# EAGLE library part T120F576 (library EfinixTrio)
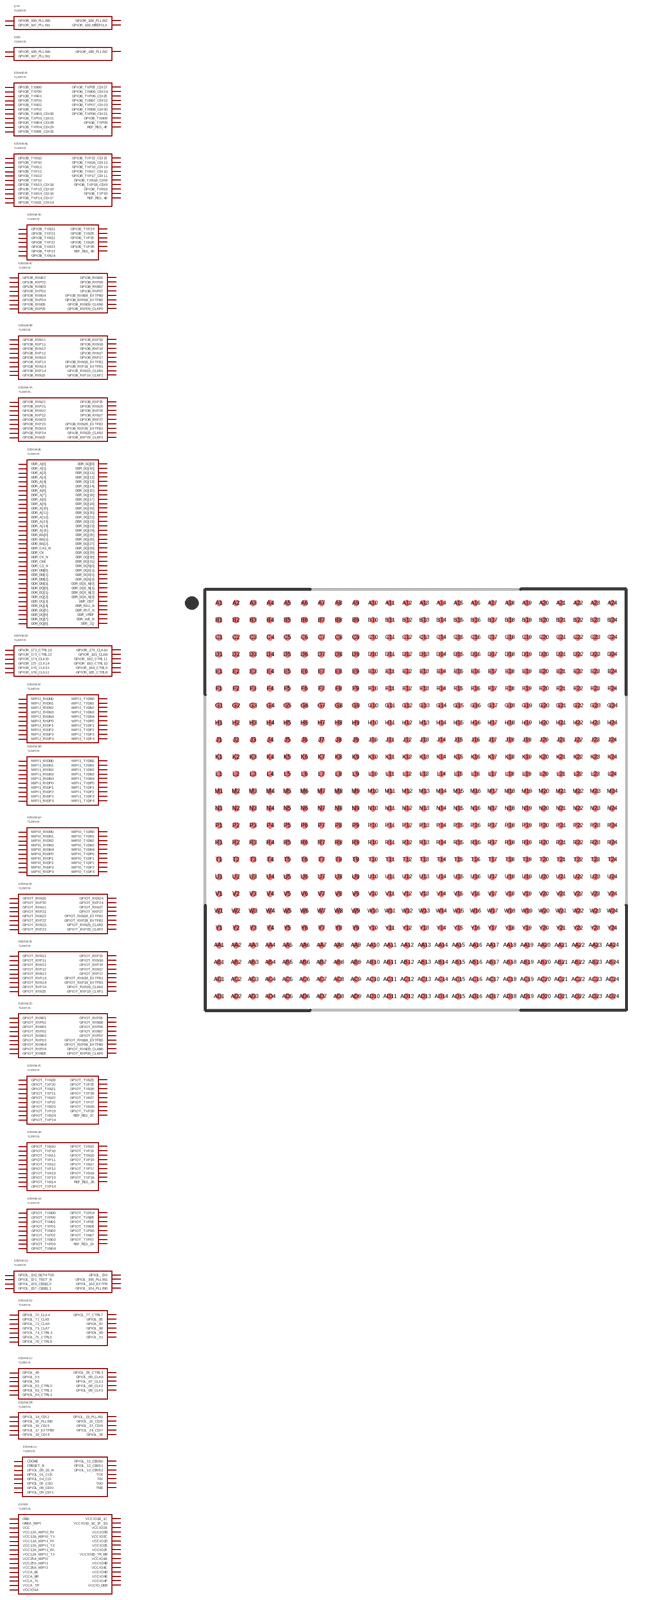
[diagram p2: symbol with the pads of FBGA576; footprint FBGA576]

Designator prefix IC; gates PWR=T120F576PWR BANK1A=T120F576BANK1A BANK1B=T120F576BANK1B BANK1C=T120F576BANK1C BANK1D=T120F576BANK1D BANK1G=T120F576BANK1G BANK2A=T120F576BANK2A BANK2B=T120F576BANK2B BANK2C=T120F576BANK2C BANK2D=T120F576BANK2D BANK2E=T120F576BANK2E BANK2F=T120F576BANK2F BANK3A=T120F576BANK3A BANK3B=T120F576BANK3B BANK3C=T120F576BANK3C BANK3D=T120F576BANK3D BANK3E=T120F576BANK3E BANK4A=T120F576BANK4A BANK4B=T120F576BANK4B BANK4C=T120F576BANK4C BANK4D=T120F576BANK4D BANK4E=T120F576BANK4E BANK4F=T120F576BANK4F BR=T120F576BR TR=T120F576TR

## T120F576  [FBGA576]
A1  PWR:GND  pwr
A2  BANK3B:MIPI1_RXDP1
A3  BANK3B:MIPI1_RXDN0
A4  BANK3B:MIPI1_TXDP4
A5  BANK3B:MIPI1_TXDP0
A6  BANK3A:MIPI0_TXDP3
A7  BANK3A:MIPI0_TXDP2
A8  BANK3A:MIPI0_TXDN1
A9  BANK2F:GPIOT_RXP28_EXTFB2
A10  BANK2F:GPIOT_RXP27
A11  BANK2F:GPIOT_RXP20
A12  BANK2E:GPIOT_RXN12
A13  BANK2E:GPIOT_RXN19_CLKN1
A14  BANK2D:GPIOT_RXN08_EXTFB0
A15  BANK2D:GPIOT_RXN07
A16  BANK2C:GPIOT_TXP28
A17  BANK2C:GPIOT_TXP27
A18  BANK2C:GPIOT_TXP26
A19  BANK2B:GPIOT_TXN18
A20  BANK2B:GPIOT_TXP15
A21  BANK2B:GPIOT_TXP17
A22  BANK2B:GPIOT_TXP16
A23  BANK2B:GPIOT_TXN14
A24  PWR:GND  pwr
AA1  PWR:GND  pwr
AA2  BANK3E:DDR_DM[2]
AA3  BANK3E:DDR_DQS_N[2]
AA4  BANK3E:DDR_DQ[23]
AA5  BANK3E:DDR_DQ[21]
AA6  BANK3E:DDR_DQ[22]
AA7  PWR:GND  pwr
AA8  BR:GPIOR_186_PLLIN0
AA9  BR:GPIOR_187_PLLIN1
AA10  BANK4A:GPIOB_RXP25
AA11  BANK4A:GPIOB_RXN25
AA12  BANK4B:GPIOB_RXN16
AA13  BANK4B:GPIOB_RXP15
AA14  BANK4B:GPIOB_RXN12
AA15  BANK4C:GPIOB_RXP05
AA16  BANK4C:GPIOB_RXN04
AA17  BANK4D:GPIOB_TXP26
AA18  PWR:VCCIO4D  pwr
AA19  BANK4E:GPIOB_TXN13_CDI18
AA20  BANK4E:GPIOB_TXN10
AA21  PWR:VCCIO4E  pwr
AA22  BANK4F:GPIOB_TXN07_CDI22
AA23  PWR:GND  pwr
AA24  BANK4F:GPIOB_TXP00
AB1  BANK3E:DDR_DQ[24]
AB2  BANK3E:DDR_DQ[26]
AB3  PWR:GND  pwr
AB4  BANK3E:DDR_DQ[25]
AB5  PWR:GND  pwr
AB6  BANK3E:DDR_BA[0]
AB7  BANK3E:DDR_ODT
AB8  BR:GPIOR_188_PLLIN2
AB9  BANK3E:DDR_CS_N
AB10  PWR:VCCIO4A  pwr
AB11  PWR:GND  pwr
AB12  BANK4B:GPIOB_RXP16
AB13  BANK4B:GPIOB_RXN15
AB14  PWR:GND  pwr
AB15  PWR:VCCIO4C  pwr
AB16  BANK4C:GPIOB_RXP04
AB17  PWR:GND  pwr
AB18  BANK4D:GPIOB_TXP24
AB19  BANK4E:GPIOB_TXP13_CDI19
AB20  PWR:GND  pwr
AB21  BANK4E:GPIOB_TXP15_CDI15
AB22  PWR:VCCIO4F  pwr
AB23  BANK4F:GPIOB_TXP03_CDI31
AB24  BANK4F:GPIOB_TXN01
AC1  BANK3E:DDR_DQ[27]
AC2  PWR:VCCIO_DDR  pwr
AC3  BANK3E:DDR_DQ[29]
AC4  PWR:VCCIO_DDR  pwr
AC5  BANK3E:DDR_DM[3]
AC6  PWR:VCCIO_DDR  pwr
AC7  BANK3E:DDR_BA[2]
AC8  PWR:VCCIO_DDR  pwr
AC9  BANK3E:DDR_CKE
AC10  BANK4A:GPIOB_RXN27
AC11  BANK4A:GPIOB_RXP26
AC12  BANK4B:GPIOB_RXP19_CLKP1
AC13  BANK4B:GPIOB_RXP18_EXTFB1
AC14  BANK4B:GPIOB_RXP17
AC15  BANK4C:GPIOB_RXN08_EXTFB0
AC16  BANK4C:GPIOB_RXN07
AC17  BANK4D:GPIOB_TXN25
AC18  BANK4D:GPIOB_TXN24
AC19  BANK4E:GPIOB_TXN19
AC20  BANK4E:GPIOB_TXN18_CDI8
AC21  BANK4E:GPIOB_TXN15_CDI14
AC22  BANK4F:GPIOB_TXP06_CDI25
AC23  BANK4F:GPIOB_TXN03_CDI30
AC24  BANK4F:GPIOB_TXP01
AD1  PWR:GND  pwr
AD2  BANK3E:DDR_DQ[28]
AD3  BANK3E:DDR_DQ[30]
AD4  BANK3E:DDR_DQ[31]
AD5  BANK3E:DDR_BA[1]
AD6  BANK3E:DDR_WE_N
AD7  PWR:GND  pwr
AD8  BANK3E:DDR_RAS_N
AD9  BANK3E:DDR_CAS_N
AD10  BANK4A:GPIOB_RXP27
AD11  BANK4A:GPIOB_RXN26
AD12  BANK4B:GPIOB_RXN19_CLKN1
AD13  BANK4B:GPIOB_RXN18_EXTFB1
AD14  BANK4B:GPIOB_RXN17
AD15  BANK4C:GPIOB_RXP08_EXTFB0
AD16  BANK4C:GPIOB_RXP07
AD17  BANK4D:GPIOB_TXP25
AD18  BANK4D:REF_RES_4D
AD19  BANK4E:GPIOB_TXP19
AD20  BANK4E:GPIOB_TXP18_CDI9
AD21  BANK4E:REF_RES_4E
AD22  BANK4F:GPIOB_TXN06_CDI24
AD23  BANK4F:REF_RES_4F
AD24  PWR:GND  pwr
B1  BANK3B:MIPI1_RXDN2
B2  BANK3B:MIPI1_RXDN1
B3  BANK3B:MIPI1_RXDP0
B4  BANK3B:MIPI1_TXDN4
B5  BANK3B:MIPI1_TXDN0
B6  BANK3A:MIPI0_TXDN3
B7  BANK3A:MIPI0_TXDN2
B8  BANK3A:MIPI0_TXDP1
B9  BANK2F:GPIOT_RXN28_EXTFB2
B10  BANK2F:GPIOT_RXN27
B11  BANK2F:GPIOT_RXN20
B12  BANK2E:GPIOT_RXP12
B13  BANK2E:GPIOT_RXP19_CLKP1
B14  BANK2D:GPIOT_RXP08_EXTFB0
B15  BANK2D:GPIOT_RXP07
B16  BANK2C:GPIOT_TXN28
B17  BANK2C:GPIOT_TXN27
B18  BANK2C:GPIOT_TXN26
B19  BANK2B:GPIOT_TXP18
B20  BANK2B:GPIOT_TXN15
B21  BANK2B:GPIOT_TXN17
B22  BANK2B:GPIOT_TXN16
B23  BANK2B:GPIOT_TXP14
B24  BANK2B:GPIOT_TXN13
C1  BANK3B:MIPI1_RXDP2
C2  PWR:GNDA_MIPI  pwr
C3  PWR:VCC25A_MIPI1  pwr
C4  PWR:GNDA_MIPI  pwr
C5  BANK3B:MIPI1_TXDN2
C6  BANK3A:MIPI0_TXDP4
C7  PWR:VCC12A_MIPI0_TX  pwr
C8  BANK3A:MIPI0_TXDN0
C9  BANK2F:GPIOT_RXN29_CLKN2
C10  PWR:GND  pwr
C11  PWR:VCCIO2F  pwr
C12  PWR:VCCIO2E  pwr
C13  BANK2E:GPIOT_RXN17
C14  PWR:GND  pwr
C15  BANK2D:GPIOT_RXN05
C16  BANK2C:REF_RES_2C
C17  PWR:GND  pwr
C18  PWR:VCCIO2C  pwr
C19  PWR:VCCIO2B  pwr
C20  BANK2B:REF_RES_2B
C21  BANK2A:REF_RES_2A
C22  PWR:VCCIO2B  pwr
C23  PWR:GND  pwr
C24  BANK2B:GPIOT_TXP13
D1  BANK3B:MIPI1_RXDP4
D2  PWR:VCC12A_MIPI1_TX  pwr
D3  BANK3B:MIPI1_RXDN3
D4  PWR:VCC12A_MIPI1_RX  pwr
D5  BANK3B:MIPI1_TXDP2
D6  BANK3A:MIPI0_TXDN4
D7  BANK3A:MIPI0_RXDN1
D8  BANK3A:MIPI0_TXDP0
D9  BANK2F:GPIOT_RXP29_CLKP2
D10  BANK2F:GPIOT_RXP24
D11  BANK2F:GPIOT_RXP21
D12  BANK2E:GPIOT_RXN18_EXTFB1
D13  BANK2E:GPIOT_RXP17
D14  PWR:VCCIO2D  pwr
D15  BANK2D:GPIOT_RXP05
D16  BANK2D:GPIOT_RXP06
D17  BANK2C:GPIOT_TXN25
D18  BANK2C:GPIOT_TXN24
D19  BANK2A:GPIOT_TXN07
D20  PWR:GND  pwr
D21  BANK2A:GPIOT_TXN05
D22  BANK2B:GPIOT_TXN11
D23  BANK2B:GPIOT_TXP12
D24  BANK2B:GPIOT_TXP10
E1  BANK3B:MIPI1_RXDN4
E2  BANK3C:MIPI2_TXDP0
E3  BANK3B:MIPI1_RXDP3
E4  BANK3B:MIPI1_TXDP3
E5  BANK3B:MIPI1_TXDP1
E6  PWR:VCC25A_MIPI0  pwr
E7  BANK3A:MIPI0_RXDP1
E8  BANK3A:MIPI0_RXDN0
E9  PWR:GND  pwr
E10  BANK2F:GPIOT_RXN24
E11  BANK2F:GPIOT_RXN21
E12  BANK2E:GPIOT_RXP18_EXTFB1
E13  BANK2E:GPIOT_RXN16
E14  BANK2E:GPIOT_RXN15
E15  BANK2D:GPIOT_RXP03
E16  BANK2D:GPIOT_RXN06
E17  BANK2C:GPIOT_TXP25
E18  BANK2C:GPIOT_TXP24
E19  BANK2A:GPIOT_TXP07
E20  BANK2A:GPIOT_TXN06
E21  BANK2A:GPIOT_TXP05
E22  BANK2B:GPIOT_TXP11
E23  BANK2B:GPIOT_TXN12
E24  BANK2B:GPIOT_TXN10
F1  BANK3C:MIPI2_TXDN3
F2  BANK3C:MIPI2_TXDN0
F3  PWR:VCC25A_MIPI2  pwr
F4  BANK3B:MIPI1_TXDN3
F5  BANK3B:MIPI1_TXDN1
F6  BANK3A:MIPI0_RXDP2
F7  PWR:GNDA_MIPI  pwr
F8  BANK3A:MIPI0_RXDP0
F9  TR:GPIOR_167_PLLIN1
F10  BANK2F:GPIOT_RXN23
F11  PWR:GND  pwr
F12  BANK2E:GPIOT_RXN11
F13  BANK2E:GPIOT_RXP16
F14  BANK2E:GPIOT_RXP15
F15  BANK2D:GPIOT_RXN03
F16  PWR:VCCIO2D  pwr
F17  BANK2C:GPIOT_TXN20
F18  PWR:VCCIO2C  pwr
F19  BANK2A:GPIOT_TXP00
F20  BANK2A:GPIOT_TXP06
F21  BANK2A:GPIOT_TXP01
F22  BANK2A:GPIOT_TXN04
F23  PWR:VCCIO2A  pwr
F24  BANK2A:GPIOT_TXN02
G1  BANK3C:MIPI2_TXDP3
G2  PWR:GNDA_MIPI  pwr
G3  BANK3C:MIPI2_TXDP2
G4  PWR:VCC12A_MIPI2_RX  pwr
G5  BANK3C:MIPI2_TXDN1
G6  BANK3A:MIPI0_RXDN2
G7  BANK3A:MIPI0_RXDP4
G8  PWR:VCC12A_MIPI0_RX  pwr
G9  TR:GPIOR_169_MREFCLK
G10  BANK2F:GPIOT_RXP23
G11  PWR:VCCIO2F  pwr
G12  BANK2E:GPIOT_RXP11
G13  PWR:VCCIO2E  pwr
G14  PWR:GND  pwr
G15  BANK2D:GPIOT_RXN01
G16  BANK2D:GPIOT_RXP04
G17  BANK2C:GPIOT_TXP20
G18  BANK2C:GPIOT_TXN21
G19  BANK2A:GPIOT_TXN00
G20  PWR:VCCIO2A  pwr
G21  BANK2A:GPIOT_TXN01
G22  BANK2A:GPIOT_TXP04
G23  BANK2A:GPIOT_TXN03
G24  BANK2A:GPIOT_TXP02
H1  BANK3C:MIPI2_TXDN4
H2  PWR:VCC12A_MIPI2_TX  pwr
H3  BANK3C:MIPI2_TXDN2
H4  PWR:GNDA_MIPI  pwr
H5  BANK3C:MIPI2_TXDP1
H6  PWR:GNDA_MIPI  pwr
H7  BANK3A:MIPI0_RXDN4
H8  BANK3D:GPIOR_172_CTRL13
H9  TR:GPIOR_168_PLLIN2
H10  PWR:VCCA_TR  pwr
H11  BANK2F:GPIOT_RXN22
H12  BANK2E:GPIOT_RXP14
H13  BANK2E:GPIOT_RXN13
H14  BANK2D:GPIOT_RXN02
H15  BANK2D:GPIOT_RXP01
H16  BANK2D:GPIOT_RXN04
H17  PWR:GND  pwr
H18  BANK2C:GPIOT_TXP21
H19  PWR:GND  pwr
H20  BANK1D:GPIOL_91
H21  PWR:GND  pwr
H22  BANK1G:GPIOL_162_EXTFB
H23  BANK2A:GPIOT_TXP03
H24  BANK1G:GPIOL_164_PLLIN0
J1  BANK3C:MIPI2_TXDP4
J2  BANK3C:MIPI2_RXDN4
J3  BANK3C:MIPI2_RXDN3
J4  BANK3C:MIPI2_RXDN2
J5  BANK3C:MIPI2_RXDP1
J6  BANK3C:MIPI2_RXDP0
J7  BANK3A:MIPI0_RXDP3
J8  BANK3D:GPIOR_173_CTRL12
J9  TR:GPIOR_166_PLLIN0
J10  PWR:VCCA_TR  pwr
J11  BANK2F:GPIOT_RXP22
J12  BANK2E:GPIOT_RXN14
J13  BANK2E:GPIOT_RXP13
J14  BANK2D:GPIOT_RXP02
J15  PWR:VCCA_TL  pwr
J16  BANK2D:GPIOT_RXP09_CLKP0
J17  BANK2C:GPIOT_TXP23
J18  BANK2C:GPIOT_TXP22
J19  BANK1D:GPIOL_89
J20  BANK1D:GPIOL_87
J21  BANK1G:GPIOL_150_NSTATUS
J22  BANK1G:GPIOL_160_PLLIN1
J23  PWR:VCCIO1D_1E_1F_1G  pwr
J24  BANK1G:GPIOL_157_CBSEL1
K1  PWR:GND  pwr
K2  BANK3C:MIPI2_RXDP4
K3  BANK3C:MIPI2_RXDP3
K4  BANK3C:MIPI2_RXDP2
K5  BANK3C:MIPI2_RXDN1
K6  BANK3C:MIPI2_RXDN0
K7  BANK3A:MIPI0_RXDN3
K8  BANK3D:GPIOR_175_CLK14
K9  PWR:VCCIO3D_TR_BR  pwr
K10  PWR:GND  pwr
K11  PWR:VCC  pwr
K12  PWR:GND  pwr
K13  PWR:VCC  pwr
K14  PWR:GND  pwr
K15  PWR:VCC  pwr
K16  BANK2D:GPIOT_RXN09_CLKN0
K17  BANK2C:GPIOT_TXN23
K18  BANK2C:GPIOT_TXN22
K19  BANK1D:GPIOL_85
K20  BANK1D:GPIOL_88
K21  BANK1D:GPIOL_77_CTRL7
K22  BANK1G:GPIOL_156_CBSEL0
K23  BANK1G:GPIOL_151_TEST_N
K24  BANK1G:GPIOL_159
L1  BANK3E:DDR_DM[1]
L2  PWR:VCCIO_DDR  pwr
L3  PWR:GND  pwr
L4  PWR:VCCIO_DDR  pwr
L5  PWR:GND  pwr
L6  PWR:VCCIO_DDR  pwr
L7  BANK3D:GPIOR_182_CTRL11
L8  BANK3D:GPIOR_174_CLK15
L9  PWR:VCCIO3D_TR_BR  pwr
L10  PWR:VCC  pwr
L11  PWR:GND  pwr
L12  PWR:VCC  pwr
L13  PWR:GND  pwr
L14  PWR:VCC  pwr
L15  PWR:GND  pwr
L16  BANK1C:GPIOL_68_CLK2
L17  BANK1C:GPIOL_65_CTRL3
L18  BANK1C:GPIOL_67_CLK1
L19  BANK1C:GPIOL_66_CLK0
L20  BANK1C:GPIOL_64_CTRL2
L21  PWR:VCCIO1D_1E_1F_1G  pwr
L22  BANK1D:GPIOL_76_CTRL6
L23  BANK1D:GPIOL_75_CTRL5
L24  BANK1D:GPIOL_74_CTRL4
M1  BANK3E:DDR_DQ[10]
M2  BANK3E:DDR_DQ[12]
M3  BANK3E:DDR_DQ[13]
M4  BANK3E:DDR_DQ[14]
M5  BANK3E:DDR_DQ[15]
M6  BANK3E:DDR_VREF
M7  BANK3D:GPIOR_183_CTRL10
M8  BANK3D:GPIOR_176_CLK13
M9  PWR:VCC  pwr
M10  PWR:GND  pwr
M11  PWR:VCC  pwr
M12  PWR:GND  pwr
M13  PWR:VCC  pwr
M14  PWR:GND  pwr
M15  PWR:VCC  pwr
M16  BANK1C:GPIOL_63_CTRL1
M17  PWR:VCCIO1B_1C  pwr
M18  BANK1C:GPIOL_69_CLK3
M19  BANK1C:GPIOL_62_CTRL0
M20  BANK1C:GPIOL_56
M21  BANK1D:GPIOL_72_CLK6
M22  BANK1D:GPIOL_73_CLK7
M23  BANK1D:GPIOL_70_CLK4
M24  BANK1D:GPIOL_71_CLK5
N1  BANK3E:DDR_DQ[7]
N2  BANK3E:DDR_DQ[9]
N3  BANK3E:DDR_DQS_N[1]
N4  BANK3E:DDR_DQS[1]
N5  BANK3D:GPIOR_184_CTRL9
N6  BANK3D:GPIOR_181_CLK8
N7  BANK3D:GPIOR_185_CTRL8
N8  BANK3D:GPIOR_179_CLK10
N9  BANK3D:GPIOR_178_CLK11
N10  PWR:VCC  pwr
N11  PWR:GND  pwr
N12  PWR:VCC  pwr
N13  PWR:GND  pwr
N14  PWR:VCC  pwr
N15  PWR:GND  pwr
N16  BANK1C:GPIOL_53
N17  BANK1C:GPIOL_49
N18  BANK1B:GPIOL_36
N19  PWR:VCCIO1B_1C  pwr
N20  BANK1B:GPIOL_24_CDI7
N21  BANK1A:GPIOL_13_CBUS2
N22  BANK1A:GPIOL_12_CBUS1
N23  BANK1A:GPIOL_09_CDI1
N24  BANK1A:GPIOL_08_CDI0
P1  BANK3E:DDR_DQ[6]
P2  PWR:VCCIO_DDR  pwr
P3  BANK3E:DDR_DQ[11]
P4  PWR:VCCIO_DDR  pwr
P5  BANK3E:DDR_A[3]
P6  PWR:VCCIO_DDR  pwr
P7  BANK3E:DDR_A[1]
P8  BANK3E:DDR_A[0]
P9  PWR:VCC  pwr
P10  PWR:GND  pwr
P11  PWR:VCC  pwr
P12  PWR:GND  pwr
P13  PWR:VCC  pwr
P14  PWR:GND  pwr
P15  PWR:VCC  pwr
P16  BANK1B:GPIOL_22_CDI6
P17  PWR:VCCA_BL  pwr
P18  BANK1B:GPIOL_20_CDI5
P19  BANK1B:GPIOL_19_PLLIN1
P20  BANK1A:TDI
P21  BANK1A:GPIOL_11_CBUS0
P22  BANK1A:GPIOL_01_CCK
P23  PWR:VCCIO1A  pwr
P24  BANK1A:GPIOL_05_CSO
R1  PWR:GND  pwr
R2  BANK3E:DDR_DQ[8]
R3  PWR:GND  pwr
R4  BANK3E:DDR_DQ[5]
R5  PWR:GND  pwr
R6  BANK3E:DDR_A[2]
R7  PWR:GND  pwr
R8  BANK3E:DDR_A[7]
R9  PWR:GND  pwr
R10  PWR:VCC  pwr
R11  PWR:GND  pwr
R12  PWR:VCC  pwr
R13  PWR:GND  pwr
R14  PWR:VCC  pwr
R15  PWR:GND  pwr
R16  BANK1B:GPIOL_18_CDI4
R17  BANK1B:GPIOL_16_CDI3
R18  BANK1B:GPIOL_15_PLLIN0
R19  BANK1B:GPIOL_14_CDI2
R20  BANK1A:TCK
R21  BANK1A:TMS
R22  BANK4F:GPIOB_TXN09
R23  BANK1A:GPIOL_00_SS_N
R24  BANK1A:GPIOL_04_CSI
T1  BANK3E:DDR_DM[0]
T2  BANK3E:DDR_DQ[4]
T3  BANK3E:DDR_DQS[0]
T4  BANK3E:DDR_DQS_N[0]
T5  BANK3E:DDR_A[9]
T6  BANK3E:DDR_A[5]
T7  BANK3E:DDR_A[4]
T8  BANK3E:DDR_A[6]
T9  BANK3E:DDR_A[13]
T10  PWR:VCCA_BR  pwr
T11  PWR:VCCA_BR  pwr
T12  BANK4A:GPIOB_RXN24
T13  BANK4B:GPIOB_RXN14
T14  BANK4B:GPIOB_RXP13
T15  BANK4C:GPIOB_RXP03
T16  BANK4C:GPIOB_RXN02
T17  BANK1B:GPIOL_17_EXTFB0
T18  BANK4D:GPIOB_TXN21
T19  BANK4E:GPIOB_TXP14_CDI17
T20  PWR:GND  pwr
T21  BANK1A:TDO
T22  BANK4F:GPIOB_TXP09
T23  BANK1A:CDONE
T24  BANK1A:CRESET_N
U1  BANK3E:DDR_DQ[1]
U2  PWR:VCCIO_DDR  pwr
U3  BANK3E:DDR_DQ[3]
U4  PWR:VCCIO_DDR  pwr
U5  BANK3E:DDR_A[11]
U6  PWR:VCCIO_DDR  pwr
U7  BANK3E:DDR_A[8]
U8  PWR:VCCIO_DDR  pwr
U9  BANK3E:DDR_A[15]
U10  BANK3E:DDR_A[14]
U11  BANK4A:GPIOB_RXN23
U12  BANK4A:GPIOB_RXP24
U13  BANK4B:GPIOB_RXP14
U14  BANK4B:GPIOB_RXN13
U15  BANK4C:GPIOB_RXN03
U16  BANK4C:GPIOB_RXP02
U17  BANK4D:GPIOB_TXP22
U18  BANK4D:GPIOB_TXP21
U19  BANK4E:GPIOB_TXN14_CDI16
U20  PWR:VCCIO4E  pwr
U21  BANK4E:GPIOB_TXN16_CDI12
U22  PWR:GND  pwr
U23  BANK4F:GPIOB_TXN05_CDI26
U24  BANK4F:GPIOB_TXP05_CDI27
V1  BANK3E:DDR_DQ[2]
V2  PWR:GND  pwr
V3  BANK3E:DDR_DQ[0]
V4  BANK3E:DDR_ZQ
V5  PWR:GND  pwr
V6  BANK3E:DDR_A[12]
V7  PWR:GND  pwr
V8  BANK3E:DDR_A[10]
V9  BANK4A:GPIOB_RXN29_CLKN2
V10  BANK4A:GPIOB_RXN28_EXTFB2
V11  BANK4A:GPIOB_RXP23
V12  PWR:VCCIO4A  pwr
V13  BANK4B:GPIOB_RXP11
V14  PWR:VCCIO4B  pwr
V15  BANK4C:GPIOB_RXN09_CLKN0
V16  PWR:VCCIO4C  pwr
V17  BANK4D:GPIOB_TXN22
V18  PWR:VCCIO4D  pwr
V19  BANK4E:GPIOB_TXN17_CDI10
V20  BANK4E:GPIOB_TXP17_CDI11
V21  BANK4E:GPIOB_TXP16_CDI13
V22  BANK4F:GPIOB_TXN08_CDI20
V23  PWR:VCCIO4F  pwr
V24  BANK4F:GPIOB_TXN02
W1  BANK3E:DDR_DQ[16]
W2  BANK3E:DDR_DQ[17]
W3  PWR:GND  pwr
W4  BANK3E:DDR_DQ[18]
W5  BANK3E:DDR_DQS_N[3]
W6  BANK3E:DDR_DQS[3]
W7  BANK3E:DDR_CK_N
W8  BANK3E:DDR_RST_N
W9  BANK4A:GPIOB_RXP29_CLKP2
W10  BANK4A:GPIOB_RXP28_EXTFB2
W11  PWR:GND  pwr
W12  BANK4A:GPIOB_RXP21
W13  BANK4B:GPIOB_RXN11
W14  PWR:GND  pwr
W15  BANK4C:GPIOB_RXP09_CLKP0
W16  BANK4C:GPIOB_RXN06
W17  PWR:GND  pwr
W18  BANK4D:GPIOB_TXN23
W19  BANK4E:GPIOB_TXP11
W20  BANK4E:GPIOB_TXN11
W21  BANK4E:GPIOB_TXN12
W22  BANK4F:GPIOB_TXP08_CDI21
W23  BANK4F:GPIOB_TXP04_CDI29
W24  BANK4F:GPIOB_TXP02
Y1  BANK3E:DDR_DQ[19]
Y2  PWR:VCCIO_DDR  pwr
Y3  BANK3E:DDR_DQS[2]
Y4  PWR:VCCIO_DDR  pwr
Y5  BANK3E:DDR_DQ[20]
Y6  PWR:VCCIO_DDR  pwr
Y7  BANK3E:DDR_CK
Y8  PWR:VCCIO_DDR  pwr
Y9  PWR:GND  pwr
Y10  BANK4A:GPIOB_RXN22
Y11  BANK4A:GPIOB_RXP22
Y12  BANK4A:GPIOB_RXN21
Y13  PWR:VCCIO4B  pwr
Y14  BANK4B:GPIOB_RXP12
Y15  BANK4C:GPIOB_RXN05
Y16  BANK4C:GPIOB_RXP06
Y17  BANK4D:GPIOB_TXN26
Y18  BANK4D:GPIOB_TXP23
Y19  PWR:GND  pwr
Y20  BANK4E:GPIOB_TXP10
Y21  BANK4E:GPIOB_TXP12
Y22  BANK4F:GPIOB_TXP07_CDI23
Y23  BANK4F:GPIOB_TXN04_CDI28
Y24  BANK4F:GPIOB_TXN00

## Footprint FBGA576 (pad centres in mm)
576-BGA, collapsing, 0.65 mm pitch, 16.00 X 16.00 X 1.10 mm body 576-pin collapsing BGA package with 0.65 mm col pitch and 0.65 mm row pitch with body size 16.00 X 16.00 X 1.10 mm
smd 0.25 x 0.25: A1 -7.475,7.475; A2 -6.825,7.475; A3 -6.175,7.475; A4 -5.525,7.475; A5 -4.875,7.475; A6 -4.225,7.475; A7 -3.575,7.475; A8 -2.925,7.475; A9 -2.275,7.475; A10 -1.625,7.475; A11 -0.975,7.475; A12 -0.325,7.475; A13 0.325,7.475; A14 0.975,7.475; A15 1.625,7.475; A16 2.275,7.475; A17 2.925,7.475; A18 3.575,7.475; A19 4.225,7.475; A20 4.875,7.475; A21 5.525,7.475; A22 6.175,7.475; A23 6.825,7.475; A24 7.475,7.475; AA1 -7.475,-5.525; AA2 -6.825,-5.525; AA3 -6.175,-5.525; AA4 -5.525,-5.525; AA5 -4.875,-5.525; AA6 -4.225,-5.525; AA7 -3.575,-5.525; AA8 -2.925,-5.525; AA9 -2.275,-5.525; AA10 -1.625,-5.525; AA11 -0.975,-5.525; AA12 -0.325,-5.525; AA13 0.325,-5.525; AA14 0.975,-5.525; AA15 1.625,-5.525; AA16 2.275,-5.525; AA17 2.925,-5.525; AA18 3.575,-5.525; AA19 4.225,-5.525; AA20 4.875,-5.525; AA21 5.525,-5.525; AA22 6.175,-5.525; AA23 6.825,-5.525; AA24 7.475,-5.525; AB1 -7.475,-6.175; AB2 -6.825,-6.175; AB3 -6.175,-6.175; AB4 -5.525,-6.175; AB5 -4.875,-6.175; AB6 -4.225,-6.175; AB7 -3.575,-6.175; AB8 -2.925,-6.175; AB9 -2.275,-6.175; AB10 -1.625,-6.175; AB11 -0.975,-6.175; AB12 -0.325,-6.175; AB13 0.325,-6.175; AB14 0.975,-6.175; AB15 1.625,-6.175; AB16 2.275,-6.175; AB17 2.925,-6.175; AB18 3.575,-6.175; AB19 4.225,-6.175; AB20 4.875,-6.175; AB21 5.525,-6.175; AB22 6.175,-6.175; AB23 6.825,-6.175; AB24 7.475,-6.175; AC1 -7.475,-6.825; AC2 -6.825,-6.825; AC3 -6.175,-6.825; AC4 -5.525,-6.825; AC5 -4.875,-6.825; AC6 -4.225,-6.825; AC7 -3.575,-6.825; AC8 -2.925,-6.825; AC9 -2.275,-6.825; AC10 -1.625,-6.825; AC11 -0.975,-6.825; AC12 -0.325,-6.825; AC13 0.325,-6.825; AC14 0.975,-6.825; AC15 1.625,-6.825; AC16 2.275,-6.825; AC17 2.925,-6.825; AC18 3.575,-6.825; AC19 4.225,-6.825; AC20 4.875,-6.825; AC21 5.525,-6.825; AC22 6.175,-6.825; AC23 6.825,-6.825; AC24 7.475,-6.825; AD1 -7.475,-7.475; AD2 -6.825,-7.475; AD3 -6.175,-7.475; AD4 -5.525,-7.475; AD5 -4.875,-7.475; AD6 -4.225,-7.475; AD7 -3.575,-7.475; AD8 -2.925,-7.475; AD9 -2.275,-7.475; AD10 -1.625,-7.475; AD11 -0.975,-7.475; AD12 -0.325,-7.475; AD13 0.325,-7.475; AD14 0.975,-7.475; AD15 1.625,-7.475; AD16 2.275,-7.475; AD17 2.925,-7.475; AD18 3.575,-7.475; AD19 4.225,-7.475; AD20 4.875,-7.475; AD21 5.525,-7.475; AD22 6.175,-7.475; AD23 6.825,-7.475; AD24 7.475,-7.475; B1 -7.475,6.825; B2 -6.825,6.825; B3 -6.175,6.825; B4 -5.525,6.825; B5 -4.875,6.825; B6 -4.225,6.825; B7 -3.575,6.825; B8 -2.925,6.825; B9 -2.275,6.825; B10 -1.625,6.825; B11 -0.975,6.825; B12 -0.325,6.825; B13 0.325,6.825; B14 0.975,6.825; B15 1.625,6.825; B16 2.275,6.825; B17 2.925,6.825; B18 3.575,6.825; B19 4.225,6.825; B20 4.875,6.825; B21 5.525,6.825; B22 6.175,6.825; B23 6.825,6.825; B24 7.475,6.825; C1 -7.475,6.175; C2 -6.825,6.175; C3 -6.175,6.175; C4 -5.525,6.175; C5 -4.875,6.175; C6 -4.225,6.175; C7 -3.575,6.175; C8 -2.925,6.175; C9 -2.275,6.175; C10 -1.625,6.175; C11 -0.975,6.175; C12 -0.325,6.175; C13 0.325,6.175; C14 0.975,6.175; C15 1.625,6.175; C16 2.275,6.175; C17 2.925,6.175; C18 3.575,6.175; C19 4.225,6.175; C20 4.875,6.175; C21 5.525,6.175; C22 6.175,6.175; C23 6.825,6.175; C24 7.475,6.175; D1 -7.475,5.525; D2 -6.825,5.525; D3 -6.175,5.525; D4 -5.525,5.525; D5 -4.875,5.525; D6 -4.225,5.525; D7 -3.575,5.525; D8 -2.925,5.525; D9 -2.275,5.525; D10 -1.625,5.525; D11 -0.975,5.525; D12 -0.325,5.525; D13 0.325,5.525; D14 0.975,5.525; D15 1.625,5.525; D16 2.275,5.525; D17 2.925,5.525; D18 3.575,5.525; D19 4.225,5.525; D20 4.875,5.525; D21 5.525,5.525; D22 6.175,5.525; D23 6.825,5.525; D24 7.475,5.525; E1 -7.475,4.875; E2 -6.825,4.875; E3 -6.175,4.875; E4 -5.525,4.875; E5 -4.875,4.875; E6 -4.225,4.875; E7 -3.575,4.875; E8 -2.925,4.875; E9 -2.275,4.875; E10 -1.625,4.875; E11 -0.975,4.875; E12 -0.325,4.875; E13 0.325,4.875; E14 0.975,4.875; E15 1.625,4.875; E16 2.275,4.875; E17 2.925,4.875; E18 3.575,4.875; E19 4.225,4.875; E20 4.875,4.875; E21 5.525,4.875; E22 6.175,4.875; E23 6.825,4.875; E24 7.475,4.875; F1 -7.475,4.225; F2 -6.825,4.225; F3 -6.175,4.225; F4 -5.525,4.225; F5 -4.875,4.225; F6 -4.225,4.225; F7 -3.575,4.225; F8 -2.925,4.225; F9 -2.275,4.225; F10 -1.625,4.225; F11 -0.975,4.225; F12 -0.325,4.225; F13 0.325,4.225; F14 0.975,4.225; F15 1.625,4.225; F16 2.275,4.225; F17 2.925,4.225; F18 3.575,4.225; F19 4.225,4.225; F20 4.875,4.225; F21 5.525,4.225; F22 6.175,4.225; F23 6.825,4.225; F24 7.475,4.225; G1 -7.475,3.575; G2 -6.825,3.575; G3 -6.175,3.575; G4 -5.525,3.575; G5 -4.875,3.575; G6 -4.225,3.575; G7 -3.575,3.575; G8 -2.925,3.575; G9 -2.275,3.575; G10 -1.625,3.575; G11 -0.975,3.575; G12 -0.325,3.575; G13 0.325,3.575; G14 0.975,3.575; G15 1.625,3.575; G16 2.275,3.575; G17 2.925,3.575; G18 3.575,3.575; G19 4.225,3.575; G20 4.875,3.575; G21 5.525,3.575; G22 6.175,3.575; G23 6.825,3.575; G24 7.475,3.575; H1 -7.475,2.925; H2 -6.825,2.925; H3 -6.175,2.925; H4 -5.525,2.925; H5 -4.875,2.925; H6 -4.225,2.925; H7 -3.575,2.925; H8 -2.925,2.925; H9 -2.275,2.925; H10 -1.625,2.925; H11 -0.975,2.925; H12 -0.325,2.925; H13 0.325,2.925; H14 0.975,2.925; H15 1.625,2.925; H16 2.275,2.925; H17 2.925,2.925; H18 3.575,2.925; H19 4.225,2.925; H20 4.875,2.925; H21 5.525,2.925; H22 6.175,2.925; H23 6.825,2.925; H24 7.475,2.925; J1 -7.475,2.275; J2 -6.825,2.275; J3 -6.175,2.275; J4 -5.525,2.275; J5 -4.875,2.275; J6 -4.225,2.275; J7 -3.575,2.275; J8 -2.925,2.275; J9 -2.275,2.275; J10 -1.625,2.275; J11 -0.975,2.275; J12 -0.325,2.275; J13 0.325,2.275; J14 0.975,2.275; J15 1.625,2.275; J16 2.275,2.275; J17 2.925,2.275; J18 3.575,2.275; J19 4.225,2.275; J20 4.875,2.275; J21 5.525,2.275; J22 6.175,2.275; J23 6.825,2.275; J24 7.475,2.275; K1 -7.475,1.625; K2 -6.825,1.625; K3 -6.175,1.625; K4 -5.525,1.625; K5 -4.875,1.625; K6 -4.225,1.625; K7 -3.575,1.625; K8 -2.925,1.625; K9 -2.275,1.625; K10 -1.625,1.625; K11 -0.975,1.625; K12 -0.325,1.625; K13 0.325,1.625; K14 0.975,1.625; K15 1.625,1.625; K16 2.275,1.625; K17 2.925,1.625; K18 3.575,1.625; K19 4.225,1.625; K20 4.875,1.625; K21 5.525,1.625; K22 6.175,1.625; K23 6.825,1.625; K24 7.475,1.625; L1 -7.475,0.975; L2 -6.825,0.975; L3 -6.175,0.975; L4 -5.525,0.975; L5 -4.875,0.975; L6 -4.225,0.975; L7 -3.575,0.975; L8 -2.925,0.975; L9 -2.275,0.975; L10 -1.625,0.975; L11 -0.975,0.975; L12 -0.325,0.975; L13 0.325,0.975; L14 0.975,0.975; L15 1.625,0.975; L16 2.275,0.975; L17 2.925,0.975; L18 3.575,0.975; L19 4.225,0.975; L20 4.875,0.975; L21 5.525,0.975; L22 6.175,0.975; L23 6.825,0.975; L24 7.475,0.975; M1 -7.475,0.325; M2 -6.825,0.325; M3 -6.175,0.325; M4 -5.525,0.325; M5 -4.875,0.325; M6 -4.225,0.325; M7 -3.575,0.325; M8 -2.925,0.325; M9 -2.275,0.325; M10 -1.625,0.325; M11 -0.975,0.325; M12 -0.325,0.325; M13 0.325,0.325; M14 0.975,0.325; M15 1.625,0.325; M16 2.275,0.325; M17 2.925,0.325; M18 3.575,0.325; M19 4.225,0.325; M20 4.875,0.325; M21 5.525,0.325; M22 6.175,0.325; M23 6.825,0.325; M24 7.475,0.325; N1 -7.475,-0.325; N2 -6.825,-0.325; N3 -6.175,-0.325; N4 -5.525,-0.325; N5 -4.875,-0.325; N6 -4.225,-0.325; N7 -3.575,-0.325; N8 -2.925,-0.325; N9 -2.275,-0.325; N10 -1.625,-0.325; N11 -0.975,-0.325; N12 -0.325,-0.325; N13 0.325,-0.325; N14 0.975,-0.325; N15 1.625,-0.325; N16 2.275,-0.325; N17 2.925,-0.325; N18 3.575,-0.325; N19 4.225,-0.325; N20 4.875,-0.325; N21 5.525,-0.325; N22 6.175,-0.325; N23 6.825,-0.325; N24 7.475,-0.325; P1 -7.475,-0.975; P2 -6.825,-0.975; P3 -6.175,-0.975; P4 -5.525,-0.975; P5 -4.875,-0.975; P6 -4.225,-0.975; P7 -3.575,-0.975; P8 -2.925,-0.975; P9 -2.275,-0.975; P10 -1.625,-0.975; P11 -0.975,-0.975; P12 -0.325,-0.975; P13 0.325,-0.975; P14 0.975,-0.975; P15 1.625,-0.975; P16 2.275,-0.975; P17 2.925,-0.975; P18 3.575,-0.975; P19 4.225,-0.975; P20 4.875,-0.975; P21 5.525,-0.975; P22 6.175,-0.975; P23 6.825,-0.975; P24 7.475,-0.975; R1 -7.475,-1.625; R2 -6.825,-1.625; R3 -6.175,-1.625; R4 -5.525,-1.625; R5 -4.875,-1.625; R6 -4.225,-1.625; R7 -3.575,-1.625; R8 -2.925,-1.625; R9 -2.275,-1.625; R10 -1.625,-1.625; R11 -0.975,-1.625; R12 -0.325,-1.625; R13 0.325,-1.625; R14 0.975,-1.625; R15 1.625,-1.625; R16 2.275,-1.625; R17 2.925,-1.625; R18 3.575,-1.625; R19 4.225,-1.625; R20 4.875,-1.625; R21 5.525,-1.625; R22 6.175,-1.625; R23 6.825,-1.625; R24 7.475,-1.625; T1 -7.475,-2.275; T2 -6.825,-2.275; T3 -6.175,-2.275; T4 -5.525,-2.275; T5 -4.875,-2.275; T6 -4.225,-2.275; T7 -3.575,-2.275; T8 -2.925,-2.275; T9 -2.275,-2.275; T10 -1.625,-2.275; T11 -0.975,-2.275; T12 -0.325,-2.275; T13 0.325,-2.275; T14 0.975,-2.275; T15 1.625,-2.275; T16 2.275,-2.275; T17 2.925,-2.275; T18 3.575,-2.275; T19 4.225,-2.275; T20 4.875,-2.275; T21 5.525,-2.275; T22 6.175,-2.275; T23 6.825,-2.275; T24 7.475,-2.275; U1 -7.475,-2.925; U2 -6.825,-2.925; U3 -6.175,-2.925; U4 -5.525,-2.925; U5 -4.875,-2.925; U6 -4.225,-2.925; U7 -3.575,-2.925; U8 -2.925,-2.925; U9 -2.275,-2.925; U10 -1.625,-2.925; U11 -0.975,-2.925; U12 -0.325,-2.925; U13 0.325,-2.925; U14 0.975,-2.925; U15 1.625,-2.925; U16 2.275,-2.925; U17 2.925,-2.925; U18 3.575,-2.925; U19 4.225,-2.925; U20 4.875,-2.925; U21 5.525,-2.925; U22 6.175,-2.925; U23 6.825,-2.925; U24 7.475,-2.925; V1 -7.475,-3.575; V2 -6.825,-3.575; V3 -6.175,-3.575; V4 -5.525,-3.575; V5 -4.875,-3.575; V6 -4.225,-3.575; V7 -3.575,-3.575; V8 -2.925,-3.575; V9 -2.275,-3.575; V10 -1.625,-3.575; V11 -0.975,-3.575; V12 -0.325,-3.575; V13 0.325,-3.575; V14 0.975,-3.575; V15 1.625,-3.575; V16 2.275,-3.575; V17 2.925,-3.575; V18 3.575,-3.575; V19 4.225,-3.575; V20 4.875,-3.575; V21 5.525,-3.575; V22 6.175,-3.575; V23 6.825,-3.575; V24 7.475,-3.575; W1 -7.475,-4.225; W2 -6.825,-4.225; W3 -6.175,-4.225; W4 -5.525,-4.225; W5 -4.875,-4.225; W6 -4.225,-4.225; W7 -3.575,-4.225; W8 -2.925,-4.225; W9 -2.275,-4.225; W10 -1.625,-4.225; W11 -0.975,-4.225; W12 -0.325,-4.225; W13 0.325,-4.225; W14 0.975,-4.225; W15 1.625,-4.225; W16 2.275,-4.225; W17 2.925,-4.225; W18 3.575,-4.225; W19 4.225,-4.225; W20 4.875,-4.225; W21 5.525,-4.225; W22 6.175,-4.225; W23 6.825,-4.225; W24 7.475,-4.225; Y1 -7.475,-4.875; Y2 -6.825,-4.875; Y3 -6.175,-4.875; Y4 -5.525,-4.875; Y5 -4.875,-4.875; Y6 -4.225,-4.875; Y7 -3.575,-4.875; Y8 -2.925,-4.875; Y9 -2.275,-4.875; Y10 -1.625,-4.875; Y11 -0.975,-4.875; Y12 -0.325,-4.875; Y13 0.325,-4.875; Y14 0.975,-4.875; Y15 1.625,-4.875; Y16 2.275,-4.875; Y17 2.925,-4.875; Y18 3.575,-4.875; Y19 4.225,-4.875; Y20 4.875,-4.875; Y21 5.525,-4.875; Y22 6.175,-4.875; Y23 6.825,-4.875; Y24 7.475,-4.875